# EAGLE library part AE55105AH-942.5 (library saw-filters-narrowband)
AE55105AH-942.5 Параметр Ед. изм. Мин. значение Тип. значение Макс. значение Центральная частота МГц 941.5 942.5 943.5 Минимальное вносимое затухание дБ - 2.85 3.2 Полоса среза по уровню -2 дБ МГц 42.5 43.5 44.5 Полоса среза по уровню -40 дБ МГц - 125 - Неравномерность АЧХ дБ - 0.9 1.7 Групповое время задержки нс - - - Гарантированное затухание дБ - 45 - Температурный диапазон °C -55 22 +85 Материал подложки - - Ниобат лития 64 -
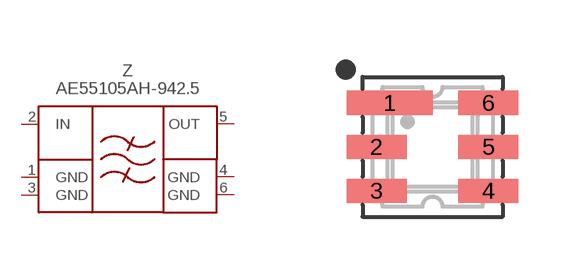
[diagram p112: symbol with the pads of DCC6; footprint DCC6]

Designator prefix Z

## AE55105AH-942.5  [DCC6]
1  GND  pwr
2  IN  in
3  GND  pwr
4  GND  pwr
5  OUT  out
6  GND  pwr

## Footprint DCC6 (pad centres in mm)
smd 2.15 x 0.6: 1 -1.075,1.1
smd 1.5 x 0.6: 2 -1.4,0; 3 -1.4,-1.1; 4 1.4,-1.1; 5 1.4,0; 6 1.4,1.1